# Altium footprint library COMM_SCHPCB.PcbLib: 125 footprints (part 6 of 8)
Each footprint in its own frame and in the unit in brackets; x right, y up, seen from the top. Pads: shape width x height; smd on the part's side, far side on the other; paste and mask are expansions set on the pad; w line width, h text height; cw(c..) or ccw(c..) is an arc to the next point about the centre after c.
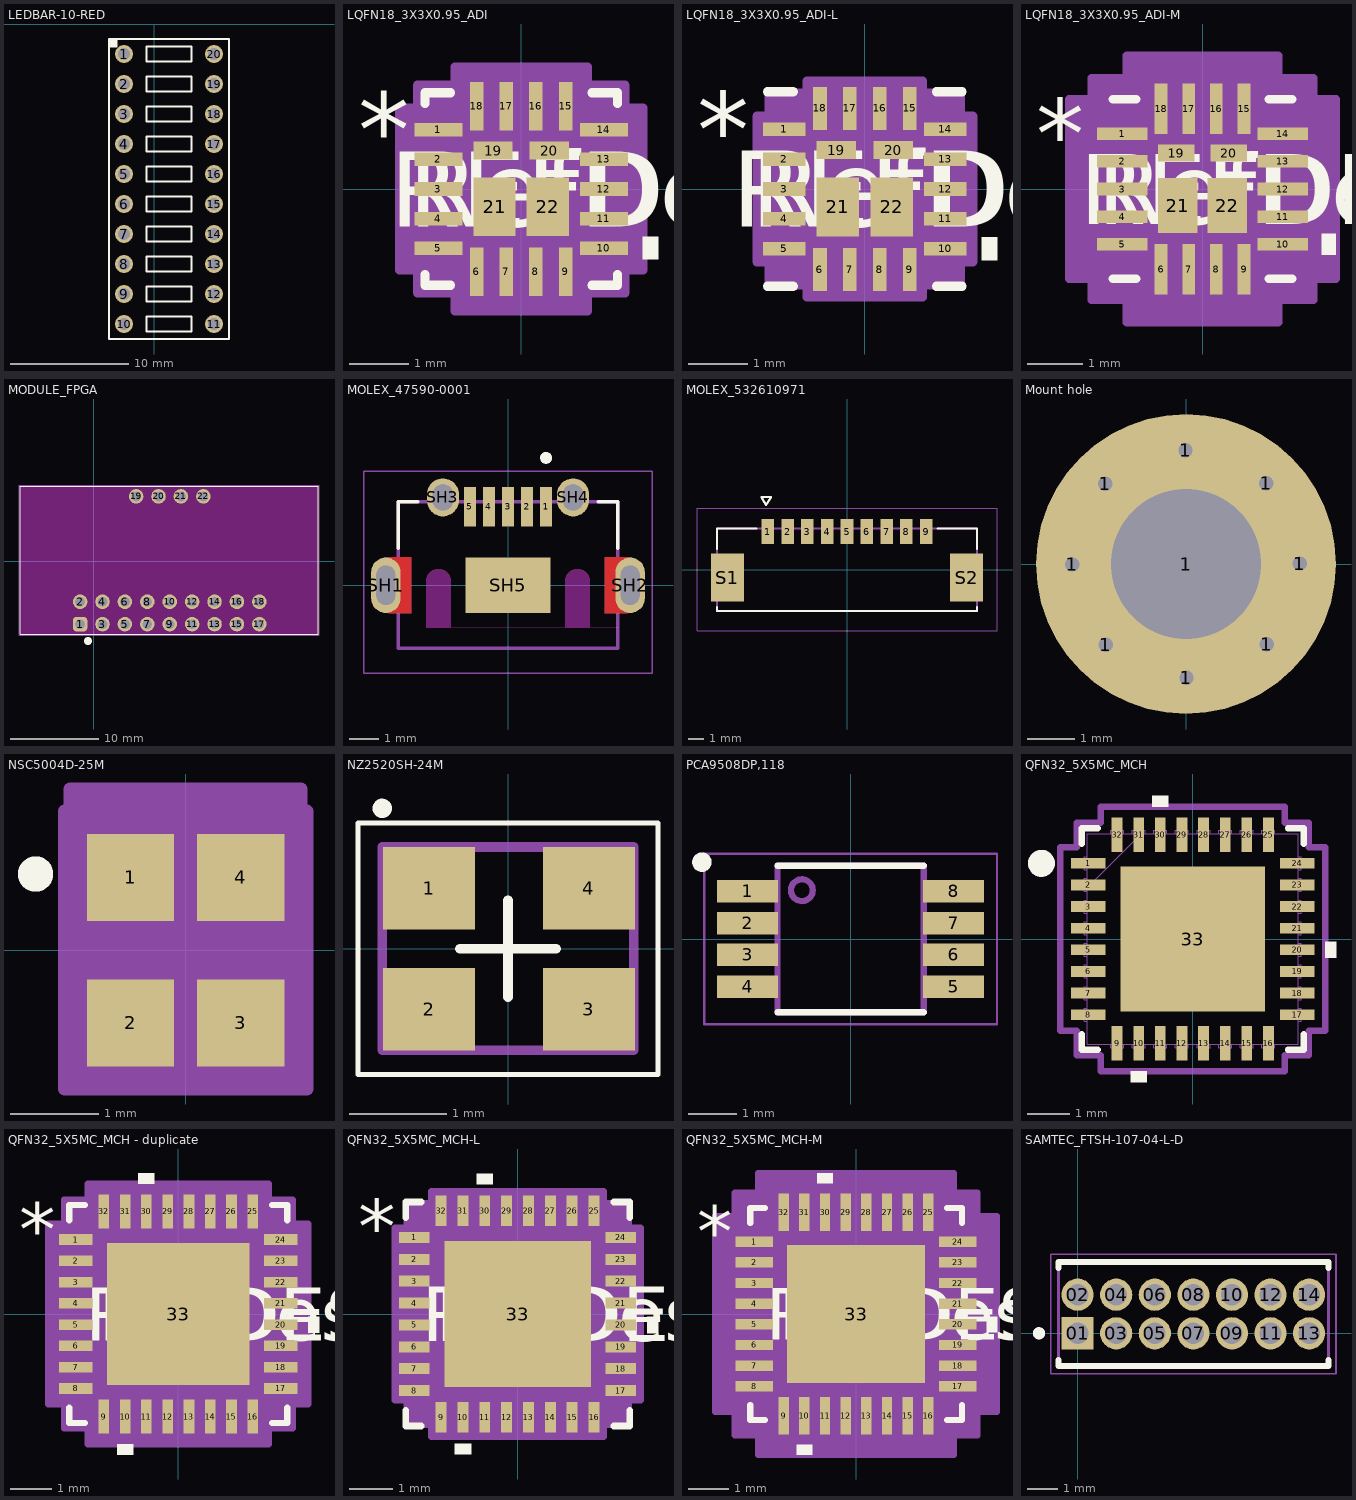
[diagram p5: the footprints below, top view; thin cyan lines are the x and y axes]

## LEDBAR-10-RED [mil]
pads (20):
  round 60 hole 40 unplated mask+2: 1(-100,-100) 2(-100,-200) 3(-100,-300) 4(-100,-400) 5(-100,-500) 6(-100,-600) 7(-100,-700) 8(-100,-800) 9(-100,-900) 10(-100,-1000) 11(200,-1000) 12(200,-900) 13(200,-800) 14(200,-700) 15(200,-600) 16(200,-500) 17(200,-400) 18(200,-300) 19(200,-200) 20(200,-100)
Top Overlay:
  rectangle: -150,-75 -125,-50
  lines w6: -150,-75 -125,-75 -125,-50 ; -150,-1050 250,-1050 250,-50 -150,-50 -150,-1050 ; -25,-1025 125,-1025 125,-975 -25,-975 -25,-1025 ; -25,-925 -25,-875 125,-875 125,-925 -25,-925 ; -25,-825 125,-825 125,-775 -25,-775 -25,-825 ; -25,-725 -25,-675 125,-675 125,-725 -25,-725 ; -25,-625 -25,-575 125,-575 125,-625 -25,-625 ; -25,-525 125,-525 125,-475 -25,-475 -25,-525 ; -25,-425 -25,-375 125,-375 125,-425 -25,-425 ; -25,-325 125,-325 125,-275 -25,-275 -25,-325 ; -25,-225 -25,-175 125,-175 125,-225 -25,-225 ; -25,-125 125,-125 125,-75 -25,-75 -25,-125
3D body "DC-10.STEP": height 325, standoff -147.44, extent -150,-1050 250,-50

## LQFN18_3X3X0.95_ADI [mil]
pads (22):
  rect 32x9 smd paste+0 mask+0: 1(-55,39.37) 2(-55,19.68) 3(-55,0) 4(-55,-19.68) 5(-55,-39.37) 10(55,-39.37) 11(55,-19.68) 12(55,0) 13(55,19.68) 14(55,39.37)
  rect 9x32 smd paste+0 mask+0: 6(-29.53,-55) 7(-9.84,-55) 8(9.84,-55) 9(29.53,-55) 15(29.53,55) 16(9.84,55) 17(-9.84,55) 18(-29.53,55)
  rect 26x12 smd paste+0 mask+0: 19(-18.7,25.6) 20(18.7,25.6)
  rect 28x39 smd paste+0 mask+0: 21(-17.72,-11.81) 22(17.72,-11.81)
Top Overlay:
  region: 81,-31.87 91,-31.87 91,-46.87 81,-46.87
  lines w6: -64,-56.97 -64,-64 -47.13,-64 ; -64,56.97 -64,64 -47.13,64 ; 47.13,-64 64,-64 64,-56.97 ; 47.13,64 64,64 64,56.97
  text "REFDES" at -87.5,-25 h50
  text "RefDes" at -75,-25 h50
  text "*" at -108.5,14.37 h50
Mechanical 13:
  lines w1: -59,9 -9,59 ; -59,-59 -59,59 59,59 59,-59 -59,-59 ; -59,-44.87 -59,-33.87 -59,-44.87 ; -59,-25.18 -59,-14.19 -59,-25.18 ; -59,-5.5 -59,5.5 -59,-5.5 ; -59,14.19 -59,25.18 -59,14.19 ; -59,33.87 -59,44.87 -59,33.87 ; -35.03,-59 -24.03,-59 -35.03,-59 ; -35.03,59 -24.03,59 -35.03,59 ; -15.34,-59 -4.34,-59 -15.34,-59 ; -15.34,59 -4.34,59 -15.34,59 ; 4.34,-59 15.34,-59 4.34,-59 ; 4.34,59 15.34,59 4.34,59 ; 24.03,-59 35.03,-59 24.03,-59 ; 24.03,59 35.03,59 24.03,59 ; 59,-44.87 59,-33.87 59,-44.87 ; 59,-25.18 59,-14.19 59,-25.18 ; 59,-5.5 59,5.5 59,-5.5 ; 59,14.19 59,25.18 59,14.19 ; 59,33.87 59,44.87 59,33.87
  text "RefDes2" at -87.5,-25 h50
  text "*" at -26.5,14.37 h50
Mechanical 15:
  region: -44.03,-69 -69,-69 -69,-53.87 -81,-53.87 -81,53.87 -69,53.87 -69,69 -44.03,69 -44.03,81 44.03,81 44.03,69 69,69 69,53.87 81,53.87 81,-53.87 69,-53.87 69,-69 44.03,-69 44.03,-81 -44.03,-81
  lines w6: -81,-53.87 -81,53.87 -69,53.87 -69,69 -44.03,69 -44.03,81 44.03,81 44.03,69 69,69 69,53.87 81,53.87 81,-53.87 69,-53.87 69,-69 44.03,-69 44.03,-81 -44.03,-81 -44.03,-69 -69,-69 -69,-53.87 -81,-53.87
3D body "LQFN18_3X3X095_ADI.step": height 41.1, standoff 0, extent -59.02,-59.02 59.02,59.02

## LQFN18_3X3X0.95_ADI-L [mil]
pads (22):
  rect 28x9 smd paste+0 mask+0: 1(-53,39.37) 2(-53,19.68) 3(-53,0) 4(-53,-19.68) 5(-53,-39.37) 10(53,-39.37) 11(53,-19.68) 12(53,0) 13(53,19.68) 14(53,39.37)
  rect 9x28 smd paste+0 mask+0: 6(-29.53,-53) 7(-9.84,-53) 8(9.84,-53) 9(29.53,-53) 15(29.53,53) 16(9.84,53) 17(-9.84,53) 18(-29.53,53)
  rect 26x12 smd paste+0 mask+0: 19(-18.7,25.6) 20(18.7,25.6)
  rect 28x39 smd paste+0 mask+0: 21(-17.72,-11.81) 22(17.72,-11.81)
Top Overlay:
  region: 77,-31.87 87,-31.87 87,-46.87 77,-46.87
  lines w6: -64,-64 -47.13,-64 ; -64,64 -47.13,64 ; 47.13,-64 64,-64 ; 47.13,64 64,64
  text "*" at -110.5,14.37 h50
  text "RefDes" at -75,-25 h50
  text "REFDES" at -87.5,-25 h50
Mechanical 13:
  lines w1: -59,9 -9,59 ; -59,-59 59,-59 59,59 -59,59 -59,-59 ; -59,-44.87 -59,-33.87 -59,-44.87 ; -59,-25.18 -59,-14.19 -59,-25.18 ; -59,-5.5 -59,5.5 -59,-5.5 ; -59,14.19 -59,25.18 -59,14.19 ; -59,33.87 -59,44.87 -59,33.87 ; -35.03,-59 -24.03,-59 -35.03,-59 ; -35.03,59 -24.03,59 -35.03,59 ; -15.34,-59 -4.34,-59 -15.34,-59 ; -15.34,59 -4.34,59 -15.34,59 ; 4.34,-59 15.34,-59 4.34,-59 ; 4.34,59 15.34,59 4.34,59 ; 24.03,-59 35.03,-59 24.03,-59 ; 24.03,59 35.03,59 24.03,59 ; 59,-44.87 59,-33.87 59,-44.87 ; 59,-25.18 59,-14.19 59,-25.18 ; 59,-5.5 59,5.5 59,-5.5 ; 59,14.19 59,25.18 59,14.19 ; 59,33.87 59,44.87 59,33.87
  text "*" at -20.5,14.37 h50
  text "RefDes2" at -87.5,-25 h50
Mechanical 15:
  region: -38.03,-63 -63,-63 -63,-47.87 -71,-47.87 -71,47.87 -63,47.87 -63,63 -38.03,63 -38.03,71 38.03,71 38.03,63 63,63 63,47.87 71,47.87 71,-47.87 63,-47.87 63,-63 38.03,-63 38.03,-71 -38.03,-71
  lines w6: -71,-47.87 -63,-47.87 -63,-63 -38.03,-63 -38.03,-71 38.03,-71 38.03,-63 63,-63 63,-47.87 71,-47.87 71,47.87 63,47.87 63,63 38.03,63 38.03,71 -38.03,71 -38.03,63 -63,63 -63,47.87 -71,47.87 -71,-47.87
3D body: height 10, standoff 0, extent 0,0 10,10

## LQFN18_3X3X0.95_ADI-M [mil]
pads (22):
  rect 36x9 smd paste+0 mask+0: 1(-57,39.37) 2(-57,19.68) 3(-57,0) 4(-57,-19.68) 5(-57,-39.37) 10(57,-39.37) 11(57,-19.68) 12(57,0) 13(57,19.68) 14(57,39.37)
  rect 9x36 smd paste+0 mask+0: 6(-29.53,-57) 7(-9.84,-57) 8(9.84,-57) 9(29.53,-57) 15(29.53,57) 16(9.84,57) 17(-9.84,57) 18(-29.53,57)
  rect 26x12 smd paste+0 mask+0: 19(-18.7,25.6) 20(18.7,25.6)
  rect 28x39 smd paste+0 mask+0: 21(-17.72,-11.81) 22(17.72,-11.81)
Top Overlay:
  region: 85,-31.87 95,-31.87 95,-46.87 85,-46.87
  lines w6: -64,-64 -47.13,-64 ; -64,64 -47.13,64 ; 47.13,-64 64,-64 ; 47.13,64 64,64
  text "*" at -118.5,14.37 h50
  text "RefDes" at -75,-25 h50
  text "REFDES" at -87.5,-25 h50
Mechanical 13:
  lines w1: -59,9 -9,59 ; -59,-59 59,-59 59,59 -59,59 -59,-59 ; -59,-44.87 -59,-33.87 -59,-44.87 ; -59,-25.18 -59,-14.19 -59,-25.18 ; -59,-5.5 -59,5.5 -59,-5.5 ; -59,14.19 -59,25.18 -59,14.19 ; -59,33.87 -59,44.87 -59,33.87 ; -35.03,-59 -24.03,-59 -35.03,-59 ; -35.03,59 -24.03,59 -35.03,59 ; -15.34,-59 -4.34,-59 -15.34,-59 ; -15.34,59 -4.34,59 -15.34,59 ; 4.34,-59 15.34,-59 4.34,-59 ; 4.34,59 15.34,59 4.34,59 ; 24.03,-59 35.03,-59 24.03,-59 ; 24.03,59 35.03,59 24.03,59 ; 59,-44.87 59,-33.87 59,-44.87 ; 59,-25.18 59,-14.19 59,-25.18 ; 59,-5.5 59,5.5 59,-5.5 ; 59,14.19 59,25.18 59,14.19 ; 59,33.87 59,44.87 59,33.87
  text "*" at -20.5,14.37 h50
  text "RefDes2" at -87.5,-25 h50
Mechanical 15:
  region: -54.03,-79 -79,-79 -79,-63.87 -95,-63.87 -95,63.87 -79,63.87 -79,79 -54.03,79 -54.03,95 54.03,95 54.03,79 79,79 79,63.87 95,63.87 95,-63.87 79,-63.87 79,-79 54.03,-79 54.03,-95 -54.03,-95
  lines w6: -95,-63.87 -79,-63.87 -79,-79 -54.03,-79 -54.03,-95 54.03,-95 54.03,-79 79,-79 79,-63.87 95,-63.87 95,63.87 79,63.87 79,79 54.03,79 54.03,95 -54.03,95 -54.03,79 -79,79 -79,63.87 -95,63.87 -95,-63.87
3D body: height 10, standoff 0, extent 0,0 10,10

## MODULE_FPGA [mm]
pads (22):
  rrect50% 1.65x1.65 hole 1.1: 1(-1.524,-7.112)
  round 1.65 hole 1.1: 2(-1.524,-4.572) 3(1.016,-7.112) 4(1.016,-4.572) 5(3.556,-7.112) 6(3.556,-4.572) 7(6.096,-7.112) 8(6.096,-4.572) 9(8.636,-7.112) 10(8.636,-4.572) 11(11.176,-7.112) 12(11.176,-4.572) 13(13.716,-7.112) 14(13.716,-4.572) 15(16.256,-7.112) 16(16.256,-4.572) 17(18.796,-7.112) 18(18.796,-4.572) 19(4.826,7.366) 20(7.366,7.366) 21(9.906,7.366) 22(12.446,7.366)
Top Overlay:
  circle w0.5: c-0.635,-9.017 r0.2
  lines w0.127: -8.331,-8.255 -8.331,8.509 25.451,8.509 25.451,-8.255 -8.331,-8.255
Keep-Out Layer:
  region: -8.331,-8.255 -8.331,8.509 25.451,8.509 25.451,-8.255
Mechanical 15:
  lines w0.05: 25.551,-8.373 -8.449,-8.373 -8.449,8.627 25.551,8.627 ; 25.559,-8.374 25.559,8.626

## MOLEX_47590-0001 [mm]
height 3.1
pads (10):
  rect 0.4x1.35 smd mask+0.07: 1(1.3,2.675) 2(0.65,2.675) 3(0,2.675) 4(-0.65,2.675) 5(-1.3,2.675)
  oval 1x1.9 hole 0.65 slot 1.35 at 90 deg mask+0: SH1(-4.175,0) SH2(4.175,0)
  oval 1.1x1.3 hole 0.7 slot 0.9 at 90 deg mask+0.1: SH3(-2.225,3) SH4(2.225,3)
  rect 2.9x1.9 smd: SH5(0,0)
Top Layer:
  region: -3.3,-0.95 -4.075,-0.95 -4.106,-0.949 -4.138,-0.947 -4.169,-0.943 -4.2,-0.937 -4.23,-0.93 -4.26,-0.921 -4.29,-0.91 -4.319,-0.898 -4.347,-0.885 -4.375,-0.87 -4.402,-0.853 -4.428,-0.835 -4.453,-0.816 -4.476,-0.796 -4.499,-0.774 -4.521,-0.751 -4.541,-0.728 -4.56,-0.703 -4.578,-0.677 -4.595,-0.65 -4.61,-0.622 -4.623,-0.594 -4.635,-0.565 -4.646,-0.535 -4.655,-0.505 -4.662,-0.475 -4.668,-0.444 -4.672,-0.413 -4.674,-0.381 -4.675,-0.35 -4.675,0.35 -4.674,0.381 -4.672,0.413 -4.668,0.444 -4.662,0.475 -4.655,0.505 -4.646,0.535 -4.635,0.565 -4.623,0.594 -4.61,0.622 -4.595,0.65 -4.578,0.677 -4.56,0.703 -4.541,0.728 -4.521,0.751 -4.499,0.774 -4.476,0.796 -4.453,0.816 -4.428,0.835 -4.402,0.853 -4.375,0.87 -4.347,0.885 -4.319,0.898 -4.29,0.91 -4.26,0.921 -4.23,0.93 -4.2,0.937 -4.169,0.943 -4.138,0.947 -4.106,0.949 -4.075,0.95 -3.3,0.95
  region: 4.106,0.949 4.138,0.947 4.169,0.943 4.2,0.937 4.23,0.93 4.26,0.921 4.29,0.91 4.319,0.898 4.347,0.885 4.375,0.87 4.402,0.853 4.428,0.835 4.453,0.816 4.476,0.796 4.499,0.774 4.521,0.751 4.541,0.728 4.56,0.703 4.578,0.677 4.595,0.65 4.61,0.622 4.623,0.594 4.635,0.565 4.646,0.535 4.655,0.505 4.662,0.475 4.668,0.444 4.672,0.413 4.674,0.381 4.675,0.35 4.675,-0.35 4.674,-0.381 4.672,-0.413 4.668,-0.444 4.662,-0.475 4.655,-0.505 4.646,-0.535 4.635,-0.565 4.623,-0.594 4.61,-0.622 4.595,-0.65 4.578,-0.677 4.56,-0.703 4.541,-0.728 4.521,-0.751 4.499,-0.774 4.476,-0.796 4.453,-0.816 4.428,-0.835 4.402,-0.853 4.375,-0.87 4.347,-0.885 4.319,-0.898 4.29,-0.91 4.26,-0.921 4.23,-0.93 4.2,-0.937 4.169,-0.943 4.138,-0.947 4.106,-0.949 4.075,-0.95 3.3,-0.95 3.3,0.95 4.075,0.95
Bottom Layer:
  region: -3.3,-0.95 -4.075,-0.95 -4.106,-0.949 -4.138,-0.947 -4.169,-0.943 -4.2,-0.937 -4.23,-0.93 -4.26,-0.921 -4.29,-0.91 -4.319,-0.898 -4.347,-0.885 -4.375,-0.87 -4.402,-0.853 -4.428,-0.835 -4.453,-0.816 -4.476,-0.796 -4.499,-0.774 -4.521,-0.751 -4.541,-0.728 -4.56,-0.703 -4.578,-0.677 -4.595,-0.65 -4.61,-0.622 -4.623,-0.594 -4.635,-0.565 -4.646,-0.535 -4.655,-0.505 -4.662,-0.475 -4.668,-0.444 -4.672,-0.413 -4.674,-0.381 -4.675,-0.35 -4.675,0.35 -4.674,0.381 -4.672,0.413 -4.668,0.444 -4.662,0.475 -4.655,0.505 -4.646,0.535 -4.635,0.565 -4.623,0.594 -4.61,0.622 -4.595,0.65 -4.578,0.677 -4.56,0.703 -4.541,0.728 -4.521,0.751 -4.499,0.774 -4.476,0.796 -4.453,0.816 -4.428,0.835 -4.402,0.853 -4.375,0.87 -4.347,0.885 -4.319,0.898 -4.29,0.91 -4.26,0.921 -4.23,0.93 -4.2,0.937 -4.169,0.943 -4.138,0.947 -4.106,0.949 -4.075,0.95 -3.3,0.95
  region: 4.106,0.949 4.138,0.947 4.169,0.943 4.2,0.937 4.23,0.93 4.26,0.921 4.29,0.91 4.319,0.898 4.347,0.885 4.375,0.87 4.402,0.853 4.428,0.835 4.453,0.816 4.476,0.796 4.499,0.774 4.521,0.751 4.541,0.728 4.56,0.703 4.578,0.677 4.595,0.65 4.61,0.622 4.623,0.594 4.635,0.565 4.646,0.535 4.655,0.505 4.662,0.475 4.668,0.444 4.672,0.413 4.674,0.381 4.675,0.35 4.675,-0.35 4.674,-0.381 4.672,-0.413 4.668,-0.444 4.662,-0.475 4.655,-0.505 4.646,-0.535 4.635,-0.565 4.623,-0.594 4.61,-0.622 4.595,-0.65 4.578,-0.677 4.56,-0.703 4.541,-0.728 4.521,-0.751 4.499,-0.774 4.476,-0.796 4.453,-0.816 4.428,-0.835 4.402,-0.853 4.375,-0.87 4.347,-0.885 4.319,-0.898 4.29,-0.91 4.26,-0.921 4.23,-0.93 4.2,-0.937 4.169,-0.943 4.138,-0.947 4.106,-0.949 4.075,-0.95 3.3,-0.95 3.3,0.95 4.075,0.95
Top Overlay:
  circle w0.2: c1.3,4.35 r0.1
  lines w0.127: -3.75,1.27 -3.75,2.85 -3.095,2.85 ; 3.095,2.85 3.75,2.85 3.75,1.27
Top Solder:
  region: -3.2,-1.05 -4.075,-1.05 -4.112,-1.049 -4.148,-1.046 -4.185,-1.041 -4.221,-1.035 -4.256,-1.026 -4.291,-1.016 -4.326,-1.004 -4.36,-0.989 -4.393,-0.974 -4.425,-0.956 -4.456,-0.937 -4.486,-0.916 -4.516,-0.894 -4.543,-0.87 -4.57,-0.845 -4.595,-0.818 -4.619,-0.791 -4.641,-0.761 -4.662,-0.731 -4.681,-0.7 -4.699,-0.668 -4.714,-0.635 -4.729,-0.601 -4.741,-0.566 -4.751,-0.531 -4.76,-0.496 -4.766,-0.46 -4.771,-0.423 -4.774,-0.387 -4.775,-0.35 -4.775,0.35 -4.774,0.387 -4.771,0.423 -4.766,0.46 -4.76,0.496 -4.751,0.531 -4.741,0.566 -4.729,0.601 -4.714,0.635 -4.699,0.668 -4.681,0.7 -4.662,0.731 -4.641,0.761 -4.619,0.791 -4.595,0.818 -4.57,0.845 -4.543,0.87 -4.516,0.894 -4.486,0.916 -4.456,0.937 -4.425,0.956 -4.393,0.974 -4.36,0.989 -4.326,1.004 -4.291,1.016 -4.256,1.026 -4.221,1.035 -4.185,1.041 -4.148,1.046 -4.112,1.049 -4.075,1.05 -3.2,1.05
  region: 4.112,1.049 4.148,1.046 4.185,1.041 4.221,1.035 4.256,1.026 4.291,1.016 4.326,1.004 4.36,0.989 4.393,0.974 4.425,0.956 4.456,0.937 4.486,0.916 4.516,0.894 4.543,0.87 4.57,0.845 4.595,0.818 4.619,0.791 4.641,0.761 4.662,0.731 4.681,0.7 4.699,0.668 4.714,0.635 4.729,0.601 4.741,0.566 4.751,0.531 4.76,0.496 4.766,0.46 4.771,0.423 4.774,0.387 4.775,0.35 4.775,-0.35 4.774,-0.387 4.771,-0.423 4.766,-0.46 4.76,-0.496 4.751,-0.531 4.741,-0.566 4.729,-0.601 4.714,-0.635 4.699,-0.668 4.681,-0.7 4.662,-0.731 4.641,-0.761 4.619,-0.791 4.595,-0.818 4.57,-0.845 4.543,-0.87 4.516,-0.894 4.486,-0.916 4.456,-0.937 4.425,-0.956 4.393,-0.974 4.36,-0.989 4.326,-1.004 4.291,-1.016 4.256,-1.026 4.221,-1.035 4.185,-1.041 4.148,-1.046 4.112,-1.049 4.075,-1.05 3.2,-1.05 3.2,1.05 4.075,1.05
Bottom Solder:
  region: -3.2,-1.05 -4.075,-1.05 -4.112,-1.049 -4.148,-1.046 -4.185,-1.041 -4.221,-1.035 -4.256,-1.026 -4.291,-1.016 -4.326,-1.004 -4.36,-0.989 -4.393,-0.974 -4.425,-0.956 -4.456,-0.937 -4.486,-0.916 -4.516,-0.894 -4.543,-0.87 -4.57,-0.845 -4.595,-0.818 -4.619,-0.791 -4.641,-0.761 -4.662,-0.731 -4.681,-0.7 -4.699,-0.668 -4.714,-0.635 -4.729,-0.601 -4.741,-0.566 -4.751,-0.531 -4.76,-0.496 -4.766,-0.46 -4.771,-0.423 -4.774,-0.387 -4.775,-0.35 -4.775,0.35 -4.774,0.387 -4.771,0.423 -4.766,0.46 -4.76,0.496 -4.751,0.531 -4.741,0.566 -4.729,0.601 -4.714,0.635 -4.699,0.668 -4.681,0.7 -4.662,0.731 -4.641,0.761 -4.619,0.791 -4.595,0.818 -4.57,0.845 -4.543,0.87 -4.516,0.894 -4.486,0.916 -4.456,0.937 -4.425,0.956 -4.393,0.974 -4.36,0.989 -4.326,1.004 -4.291,1.016 -4.256,1.026 -4.221,1.035 -4.185,1.041 -4.148,1.046 -4.112,1.049 -4.075,1.05 -3.2,1.05
  region: 4.112,1.049 4.148,1.046 4.185,1.041 4.221,1.035 4.256,1.026 4.291,1.016 4.326,1.004 4.36,0.989 4.393,0.974 4.425,0.956 4.456,0.937 4.486,0.916 4.516,0.894 4.543,0.87 4.57,0.845 4.595,0.818 4.619,0.791 4.641,0.761 4.662,0.731 4.681,0.7 4.699,0.668 4.714,0.635 4.729,0.601 4.741,0.566 4.751,0.531 4.76,0.496 4.766,0.46 4.771,0.423 4.774,0.387 4.775,0.35 4.775,-0.35 4.774,-0.387 4.771,-0.423 4.766,-0.46 4.76,-0.496 4.751,-0.531 4.741,-0.566 4.729,-0.601 4.714,-0.635 4.699,-0.668 4.681,-0.7 4.662,-0.731 4.641,-0.761 4.619,-0.791 4.595,-0.818 4.57,-0.845 4.543,-0.87 4.516,-0.894 4.486,-0.916 4.456,-0.937 4.425,-0.956 4.393,-0.974 4.36,-0.989 4.326,-1.004 4.291,-1.016 4.256,-1.026 4.221,-1.035 4.185,-1.041 4.148,-1.046 4.112,-1.049 4.075,-1.05 3.2,-1.05 3.2,1.05 4.075,1.05
Keep-Out Layer:
  board cut-out: 3.75,-1.45 -3.75,-1.45 -2.8,-1.45 -2.8,0.125 -2.799,0.147 -2.798,0.169 -2.795,0.191 -2.791,0.213 -2.786,0.235 -2.779,0.256 -2.772,0.277 -2.763,0.298 -2.754,0.318 -2.743,0.338 -2.731,0.356 -2.719,0.375 -2.705,0.392 -2.691,0.409 -2.676,0.426 -2.659,0.441 -2.642,0.455 -2.625,0.469 -2.606,0.481 -2.587,0.493 -2.568,0.504 -2.548,0.513 -2.527,0.522 -2.506,0.529 -2.485,0.536 -2.463,0.541 -2.441,0.545 -2.419,0.548 -2.397,0.549 -2.375,0.55 -2.353,0.549 -2.331,0.548 -2.309,0.545 -2.287,0.541 -2.265,0.536 -2.244,0.529 -2.223,0.522 -2.202,0.513 -2.182,0.504 -2.163,0.493 -2.144,0.481 -2.125,0.469 -2.108,0.455 -2.091,0.441 -2.074,0.426 -2.059,0.409 -2.045,0.392 -2.031,0.375 -2.019,0.356 -2.007,0.337 -1.996,0.318 -1.987,0.298 -1.978,0.277 -1.971,0.256 -1.964,0.235 -1.959,0.213 -1.955,0.191 -1.952,0.169 -1.951,0.147 -1.95,0.125 -1.95,-1.45 1.95,-1.45 1.95,0.125 1.951,0.147 1.952,0.169 1.955,0.191 1.959,0.213 1.964,0.235 1.971,0.256 1.978,0.277 1.987,0.298 1.996,0.318 2.007,0.337 2.019,0.356 2.031,0.375 2.045,0.392 2.059,0.409 2.074,0.426 2.091,0.441 2.108,0.455 2.125,0.469 2.144,0.481 2.163,0.493 2.182,0.504 2.202,0.513 2.223,0.522 2.244,0.529 2.265,0.536 2.287,0.541 2.309,0.545 2.331,0.548 2.353,0.549 2.375,0.55 2.397,0.549 2.419,0.548 2.441,0.545 2.463,0.541 2.485,0.536 2.506,0.529 2.527,0.522 2.548,0.513 2.568,0.504 2.587,0.493 2.606,0.481 2.625,0.469 2.642,0.455 2.659,0.441 2.676,0.426 2.691,0.409 2.705,0.392 2.719,0.375 2.731,0.356 2.743,0.338 2.754,0.318 2.763,0.298 2.772,0.277 2.779,0.256 2.786,0.235 2.791,0.213 2.795,0.191 2.798,0.169 2.799,0.147 2.8,0.125 2.8,-1.45
Mechanical 13:
  circle w0.2: c1.3,4.35 r0.1
  lines w0.127: -3.75,-2.15 -3.75,-1.45 -3.75,2.85 3.75,2.85 3.75,-2.15 -3.75,-2.15
Mechanical 15:
  lines w0.05: -4.925,-3 -4.925,3.9 4.925,3.9 4.925,-3 -4.925,-3
3D body "47590-0001--3DModel-STEP-269445.STEP": height 2.73, standoff -0.63, extent -4.325,-2.75 4.325,3.15

## MOLEX_532610971 [mm]
height 3.4
pads (11):
  rect 0.8x1.6 smd mask+0.076: 1(-5,2.4) 2(-3.75,2.4) 3(-2.5,2.4) 4(-1.25,2.4) 5(0,2.4) 6(1.25,2.4) 7(2.5,2.4) 8(3.75,2.4) 9(5,2.4)
  rect 2.1x3 smd mask+0.076: S1(-7.55,-0.5) S2(7.55,-0.5)
Top Overlay:
  lines w0.127: -8.2,-2.35 -8.2,-2.6 8.2,-2.6 8.2,-2.35 ; -8.2,1.3 -8.2,2.6 -5.72,2.6 ; 5.72,2.6 8.2,2.6 8.2,1.3 ; -5.405,4.575 -4.805,4.575 -5.105,4.075 -5.405,4.575
Mechanical 13:
  lines w0.127: -8.2,-2.6 8.2,-2.6 8.2,2.6 -8.2,2.6 -8.2,-2.6 ; -5.405,4.575 -4.805,4.575 -5.105,4.075 -5.405,4.575
Mechanical 15:
  lines w0.05: -9.47,-3.87 9.47,-3.87 9.47,3.87 -9.47,3.87 -9.47,-3.87
3D body "532610971.stp": height 3.2, standoff -0.2, extent -8.2,-2.5 8.2,2.7

## Mount hole [mm]
pads (9):
  round 0.6 hole 0.3: 1(-2.408,-0.007) 1(-1.708,1.697) 1(-1.697,-1.708) 1(-0.007,2.408) 1(0.007,-2.408) 1(1.697,1.708) 1(1.708,-1.697) 1(2.408,0.007)
  round 6.35 hole 3.18 paste-2539.97: 1(0,0)

## NSC5004D-25M [mm] "25 MHz XO (Standard) CMOS Oscillator 3.3V Standby (Power Down) 4-SMD, No Lead"
pads (4):
  rect 0.991x0.991 smd paste+0 mask+0: 1(-0.625,0.825) 2(-0.625,-0.825) 3(0.625,-0.825) 4(0.625,0.825)
Top Overlay:
  circle w0.3: c-1.702,0.864 r0.05
Mechanical 15:
  region: -1.308,-1.574 -1.374,-1.574 -1.374,1.574 -1.308,1.574 -1.308,1.828 1.308,1.828 1.308,1.574 1.374,1.574 1.374,-1.574 1.308,-1.574
  lines w0.152: -1.374,-1.574 -1.308,-1.574 1.308,-1.574 1.374,-1.574 1.374,1.574 1.308,1.574 1.308,1.828 -1.308,1.828 -1.308,1.574 -1.374,1.574 -1.374,-1.574
3D body "NSC5004_NDK.step": height 0.89, standoff 0, extent -1.054,-1.295 1.054,1.295

## NZ2520SH-24M [mm]
height 0.9
pads (4):
  rect 0.95x0.85 smd: 1(-0.815,0.625) 2(-0.815,-0.625) 3(0.835,-0.625) 4(0.835,0.625)
Top Overlay:
  circle w0.1: c-1.3,1.45 r0.05
  lines w0.05: -1.55,-1.3 1.55,-1.3 1.55,1.3 -1.55,1.3 -1.55,-1.3
  lines w0.1: -0.5,0 0.5,0 ; 0,-0.5 0,0.5
Top Assembly:
  lines w0.1: -1.3,-1.05 1.3,-1.05 1.3,1.05 -1.3,1.05 -1.3,-1.05
3D body: height 0.9, standoff 0, extent -1.3,-1.05 1.3,1.05

## PCA9508DP,118 [mm]
pads (8):
  rect 1.25x0.46 smd: 1(-2.11,0.975) 2(-2.11,0.325) 3(-2.11,-0.325) 4(-2.11,-0.975) 5(2.11,-0.975) 6(2.11,-0.325) 7(2.11,0.325) 8(2.11,0.975)
Top Overlay:
  circle w0.2: c-3.05,1.575 r0.1
  lines w0.127: -1.5,-1.5 1.5,-1.5 ; -1.5,1.5 1.5,1.5
Mechanical 13:
  circle w0.127: c-1,1 r0.224
  lines w0.127: -1.5,-1.5 -1.5,1.5 1.5,1.5 1.5,-1.5 -1.5,-1.5
Mechanical 15:
  lines w0.05: -3,-1.75 -3,1.75 3,1.75 3,-1.75 -3,-1.75
3D body "step_temp.STEP": height 1.1, standoff 0, extent -2.45,-1.5 2.45,1.5

## QFN32_5X5MC_MCH [mil]
pads (33):
  rect 32x10 smd paste+0 mask+0: 1(-96.5,70) 2(-96.5,50) 3(-96.5,30) 4(-96.5,10) 5(-96.5,-10) 6(-96.5,-30) 7(-96.5,-50) 8(-96.5,-70) 17(96.5,-70) 18(96.5,-50) 19(96.5,-30) 20(96.5,-10) 21(96.5,10) 22(96.5,30) 23(96.5,50) 24(96.5,70)
  rect 10x32 smd paste+0 mask+0: 9(-70,-96.5) 10(-50,-96.5) 11(-30,-96.5) 12(-10,-96.5) 13(10,-96.5) 14(30,-96.5) 15(50,-96.5) 16(70,-96.5) 25(70,96.5) 26(50,96.5) 27(30,96.5) 28(10,96.5) 29(-10,96.5) 30(-30,96.5) 31(-50,96.5) 32(-70,96.5)
  rect 134x134 smd paste-66.5 mask-66.5: 33(0,0)
Top Overlay:
  circle w15: c-140,70 r5
  region: -42.5,-122.5 -57.5,-122.5 -57.5,-132.5 -42.5,-132.5
  region: 122.5,-2.5 132.5,-2.5 132.5,-17.5 122.5,-17.5
  region: -22.5,122.5 -37.5,122.5 -37.5,132.5 -22.5,132.5
  lines w6: -102.5,-88.1 -102.5,-102.5 -88.1,-102.5 ; -102.5,88.1 -102.5,102.5 -88.1,102.5 ; 88.1,-102.5 102.5,-102.5 102.5,-88.1 ; 88.1,102.5 102.5,102.5 102.5,88.1
Top Paste:
  drawing of 25 lines, arcs and shapes, not listed
Top Solder:
  region: -69.5,54.37 -69.5,69.5 69.5,69.5 69.5,54.37
  region: -69.5,23.37 -69.5,38.63 69.5,38.63 69.5,23.37
  region: -69.5,-7.63 -69.5,7.63 69.5,7.63 69.5,-7.63
  region: -69.5,-38.63 -69.5,-23.37 69.5,-23.37 69.5,-38.63
  region: -69.5,-69.5 -69.5,-54.37 69.5,-54.37 69.5,-69.5
  region: -69.5,-69.5 -69.5,69.5 -54.37,69.5 -54.37,-69.5
  region: -23.37,-69.5 -23.37,69.5 -38.63,69.5 -38.63,-69.5
  region: 7.63,-69.5 7.63,69.5 -7.63,69.5 -7.63,-69.5
  region: 38.63,-69.5 38.63,69.5 23.37,69.5 23.37,-69.5
  region: 54.37,-69.5 54.37,69.5 69.5,69.5 69.5,-69.5
Mechanical 13:
  lines w1: -97.5,47.5 -47.5,97.5 ; -100.5,-76 -100.5,-64 -97.5,-64 -97.5,-76 -100.5,-76 ; -100.5,-56 -100.5,-44 -97.5,-44 -97.5,-56 -100.5,-56 ; -100.5,-36 -100.5,-24 -97.5,-24 -97.5,-36 -100.5,-36 ; -100.5,-16 -100.5,-4 -97.5,-4 -97.5,-16 -100.5,-16 ; -100.5,4 -100.5,16 -97.5,16 -97.5,4 -100.5,4 ; -100.5,24 -100.5,36 -97.5,36 -97.5,24 -100.5,24 ; -100.5,44 -100.5,56 -97.5,56 -97.5,44 -100.5,44 ; -100.5,64 -100.5,76 -97.5,76 -97.5,64 -100.5,64 ; -97.5,-97.5 97.5,-97.5 97.5,97.5 -97.5,97.5 -97.5,-97.5 ; -76,-100.5 -76,-97.5 -64,-97.5 -64,-100.5 -76,-100.5 ; -76,97.5 -64,97.5 -64,100.5 -76,100.5 -76,97.5 ; -56,-100.5 -56,-97.5 -44,-97.5 -44,-100.5 -56,-100.5 ; -56,97.5 -44,97.5 -44,100.5 -56,100.5 -56,97.5 ; -36,-100.5 -36,-97.5 -24,-97.5 -24,-100.5 -36,-100.5 ; -36,97.5 -24,97.5 -24,100.5 -36,100.5 -36,97.5 ; -16,-100.5 -16,-97.5 -4,-97.5 -4,-100.5 -16,-100.5 ; -16,97.5 -4,97.5 -4,100.5 -16,100.5 -16,97.5 ; 4,-100.5 4,-97.5 16,-97.5 16,-100.5 4,-100.5 ; 4,97.5 16,97.5 16,100.5 4,100.5 4,97.5 ; 24,-100.5 24,-97.5 36,-97.5 36,-100.5 24,-100.5 ; 24,97.5 36,97.5 36,100.5 24,100.5 24,97.5 ; 44,-100.5 44,-97.5 56,-97.5 56,-100.5 44,-100.5 ; 44,97.5 56,97.5 56,100.5 44,100.5 44,97.5 ; 64,-100.5 64,-97.5 76,-97.5 76,-100.5 64,-100.5 ; 64,97.5 76,97.5 76,100.5 64,100.5 64,97.5 ; 97.5,-76 97.5,-64 100.5,-64 100.5,-76 97.5,-76 ; 97.5,-56 97.5,-44 100.5,-44 100.5,-56 97.5,-56 ; 97.5,-36 97.5,-24 100.5,-24 100.5,-36 97.5,-36 ; 97.5,-16 97.5,-4 100.5,-4 100.5,-16 97.5,-16 ; 97.5,4 97.5,16 100.5,16 100.5,4 97.5,4 ; 97.5,24 97.5,36 100.5,36 100.5,24 97.5,24 ; 97.5,44 97.5,56 100.5,56 100.5,44 97.5,44 ; 97.5,64 97.5,76 100.5,76 100.5,64 97.5,64
Mechanical 15:
  lines w6: -122.5,-85 -107.5,-85 -107.5,-107.5 -85,-107.5 -85,-122.5 85,-122.5 85,-107.5 107.5,-107.5 107.5,-85 122.5,-85 122.5,85 107.5,85 107.5,107.5 85,107.5 85,122.5 -85,122.5 -85,107.5 -107.5,107.5 -107.5,85 -122.5,85 -122.5,-85
3D body "QFN32_5X5MC_MCH.step": height 65.12, standoff 0, extent -100.51,-100.51 100.51,100.51

## QFN32_5X5MC_MCH - duplicate [mil]
pads (33):
  rect 31.81x10.03 smd paste+0 mask+0: 1(-96.41,70) 2(-96.41,50) 3(-96.41,30) 4(-96.41,10) 5(-96.41,-10) 6(-96.41,-30) 7(-96.41,-50) 8(-96.41,-70) 17(96.41,-70) 18(96.41,-50) 19(96.41,-30) 20(96.41,-10) 21(96.41,10) 22(96.41,30) 23(96.41,50) 24(96.41,70)
  rect 10.03x31.81 smd paste+0 mask+0: 9(-70,-96.41) 10(-50,-96.41) 11(-30,-96.41) 12(-10,-96.41) 13(10,-96.41) 14(30,-96.41) 15(50,-96.41) 16(70,-96.41) 25(70,96.41) 26(50,96.41) 27(30,96.41) 28(10,96.41) 29(-10,96.41) 30(-30,96.41) 31(-50,96.41) 32(-70,96.41)
  rect 134x134 smd paste-66.5 mask-66.5: 33(0,0)
Top Overlay:
  region: -42.5,-122.31 -57.5,-122.31 -57.5,-132.31 -42.5,-132.31
  region: 122.31,-2.5 132.31,-2.5 132.31,-17.5 122.31,-17.5
  region: -22.5,122.31 -37.5,122.31 -37.5,132.31 -22.5,132.31
  lines w6: -102.5,-88.12 -102.5,-102.5 -88.12,-102.5 ; -102.5,88.12 -102.5,102.5 -88.12,102.5 ; 88.12,-102.5 102.5,-102.5 102.5,-88.12 ; 88.12,102.5 102.5,102.5 102.5,88.12
  text "*" at -149.81,55 h50
  text "RefDes" at -75,-25 h50
  text "REFDES" at -87.5,-25 h50
Top Paste:
  drawing of 25 lines, arcs and shapes, not listed
Top Solder:
  region: -69.5,54.37 -69.5,69.5 69.5,69.5 69.5,54.37
  region: -69.5,23.37 -69.5,38.63 69.5,38.63 69.5,23.37
  region: -69.5,-7.63 -69.5,7.63 69.5,7.63 69.5,-7.63
  region: -69.5,-38.63 -69.5,-23.37 69.5,-23.37 69.5,-38.63
  region: -69.5,-69.5 -69.5,-54.37 69.5,-54.37 69.5,-69.5
  region: -69.5,-69.5 -69.5,69.5 -54.37,69.5 -54.37,-69.5
  region: -23.37,-69.5 -23.37,69.5 -38.63,69.5 -38.63,-69.5
  region: 7.63,-69.5 7.63,69.5 -7.63,69.5 -7.63,-69.5
  region: 38.63,-69.5 38.63,69.5 23.37,69.5 23.37,-69.5
  region: 54.37,-69.5 54.37,69.5 69.5,69.5 69.5,-69.5
Mechanical 13:
  lines w1: -97.5,47.5 -47.5,97.5 ; -100.5,-76 -100.5,-64 -97.5,-64 -97.5,-76 -100.5,-76 ; -100.5,-56 -100.5,-44 -97.5,-44 -97.5,-56 -100.5,-56 ; -100.5,-36 -100.5,-24 -97.5,-24 -97.5,-36 -100.5,-36 ; -100.5,-16 -100.5,-4 -97.5,-4 -97.5,-16 -100.5,-16 ; -100.5,4 -100.5,16 -97.5,16 -97.5,4 -100.5,4 ; -100.5,24 -100.5,36 -97.5,36 -97.5,24 -100.5,24 ; -100.5,44 -100.5,56 -97.5,56 -97.5,44 -100.5,44 ; -100.5,64 -100.5,76 -97.5,76 -97.5,64 -100.5,64 ; -97.5,-97.5 97.5,-97.5 97.5,97.5 -97.5,97.5 -97.5,-97.5 ; -76,-100.5 -76,-97.5 -64,-97.5 -64,-100.5 -76,-100.5 ; -76,97.5 -64,97.5 -64,100.5 -76,100.5 -76,97.5 ; -56,-100.5 -56,-97.5 -44,-97.5 -44,-100.5 -56,-100.5 ; -56,97.5 -44,97.5 -44,100.5 -56,100.5 -56,97.5 ; -36,-100.5 -36,-97.5 -24,-97.5 -24,-100.5 -36,-100.5 ; -36,97.5 -24,97.5 -24,100.5 -36,100.5 -36,97.5 ; -16,-100.5 -16,-97.5 -4,-97.5 -4,-100.5 -16,-100.5 ; -16,97.5 -4,97.5 -4,100.5 -16,100.5 -16,97.5 ; 4,-100.5 4,-97.5 16,-97.5 16,-100.5 4,-100.5 ; 4,97.5 16,97.5 16,100.5 4,100.5 4,97.5 ; 24,-100.5 24,-97.5 36,-97.5 36,-100.5 24,-100.5 ; 24,97.5 36,97.5 36,100.5 24,100.5 24,97.5 ; 44,-100.5 44,-97.5 56,-97.5 56,-100.5 44,-100.5 ; 44,97.5 56,97.5 56,100.5 44,100.5 44,97.5 ; 64,-100.5 64,-97.5 76,-97.5 76,-100.5 64,-100.5 ; 64,97.5 76,97.5 76,100.5 64,100.5 64,97.5 ; 97.5,-76 97.5,-64 100.5,-64 100.5,-76 97.5,-76 ; 97.5,-56 97.5,-44 100.5,-44 100.5,-56 97.5,-56 ; 97.5,-36 97.5,-24 100.5,-24 100.5,-36 97.5,-36 ; 97.5,-16 97.5,-4 100.5,-4 100.5,-16 97.5,-16 ; 97.5,4 97.5,16 100.5,16 100.5,4 97.5,4 ; 97.5,24 97.5,36 100.5,36 100.5,24 97.5,24 ; 97.5,44 97.5,56 100.5,56 100.5,44 97.5,44 ; 97.5,64 97.5,76 100.5,76 100.5,64 97.5,64
  text "*" at -93,55 h50
  text "RefDes2" at -87.5,-25 h50
Mechanical 15:
  region: -85.02,-107.5 -107.5,-107.5 -107.5,-85.02 -122.31,-85.02 -122.31,85.02 -107.5,85.02 -107.5,107.5 -85.02,107.5 -85.02,122.31 85.02,122.31 85.02,107.5 107.5,107.5 107.5,85.02 122.31,85.02 122.31,-85.02 107.5,-85.02 107.5,-107.5 85.02,-107.5 85.02,-122.31 -85.02,-122.31
  lines w6: -122.31,-85.02 -107.5,-85.02 -107.5,-107.5 -85.02,-107.5 -85.02,-122.31 85.02,-122.31 85.02,-107.5 107.5,-107.5 107.5,-85.02 122.31,-85.02 122.31,85.02 107.5,85.02 107.5,107.5 85.02,107.5 85.02,122.31 -85.02,122.31 -85.02,107.5 -107.5,107.5 -107.5,85.02 -122.31,85.02 -122.31,-85.02
3D body "QFN32_5X5MC_MCH.step": height 65.12, standoff 0, extent -100.51,-100.51 100.51,100.51

## QFN32_5X5MC_MCH-L [mil]
pads (33):
  rect 28x10 smd paste+0 mask+0: 1(-94.5,70) 2(-94.5,50) 3(-94.5,30) 4(-94.5,10) 5(-94.5,-10) 6(-94.5,-30) 7(-94.5,-50) 8(-94.5,-70) 17(94.5,-70) 18(94.5,-50) 19(94.5,-30) 20(94.5,-10) 21(94.5,10) 22(94.5,30) 23(94.5,50) 24(94.5,70)
  rect 10x28 smd paste+0 mask+0: 9(-70,-94.5) 10(-50,-94.5) 11(-30,-94.5) 12(-10,-94.5) 13(10,-94.5) 14(30,-94.5) 15(50,-94.5) 16(70,-94.5) 25(70,94.5) 26(50,94.5) 27(30,94.5) 28(10,94.5) 29(-10,94.5) 30(-30,94.5) 31(-50,94.5) 32(-70,94.5)
  rect 134x134 smd paste-66.5 mask-66.5: 33(0,0)
Top Overlay:
  region: -42.5,-118.5 -57.5,-118.5 -57.5,-128.5 -42.5,-128.5
  region: 118.5,-2.5 128.5,-2.5 128.5,-17.5 118.5,-17.5
  region: -22.5,118.5 -37.5,118.5 -37.5,128.5 -22.5,128.5
  lines w6: -102.5,-88.1 -102.5,-102.5 -88.1,-102.5 ; -102.5,88.1 -102.5,102.5 -88.1,102.5 ; 88.1,-102.5 102.5,-102.5 102.5,-88.1 ; 88.1,102.5 102.5,102.5 102.5,88.1
  text "*" at -146,55 h50
  text "RefDes" at -75,-25 h50
  text "REFDES" at -87.5,-25 h50
Top Paste:
  drawing of 25 lines, arcs and shapes, not listed
Top Solder:
  region: -69.5,54.37 -69.5,69.5 69.5,69.5 69.5,54.37
  region: -69.5,23.37 -69.5,38.63 69.5,38.63 69.5,23.37
  region: -69.5,-7.63 -69.5,7.63 69.5,7.63 69.5,-7.63
  region: -69.5,-38.63 -69.5,-23.37 69.5,-23.37 69.5,-38.63
  region: -69.5,-69.5 -69.5,-54.37 69.5,-54.37 69.5,-69.5
  region: -69.5,-69.5 -69.5,69.5 -54.37,69.5 -54.37,-69.5
  region: -23.37,-69.5 -23.37,69.5 -38.63,69.5 -38.63,-69.5
  region: 7.63,-69.5 7.63,69.5 -7.63,69.5 -7.63,-69.5
  region: 38.63,-69.5 38.63,69.5 23.37,69.5 23.37,-69.5
  region: 54.37,-69.5 54.37,69.5 69.5,69.5 69.5,-69.5
Mechanical 13:
  lines w1: -97.5,47.5 -47.5,97.5 ; -100.5,-76 -100.5,-64 -97.5,-64 -97.5,-76 -100.5,-76 ; -100.5,-56 -100.5,-44 -97.5,-44 -97.5,-56 -100.5,-56 ; -100.5,-36 -100.5,-24 -97.5,-24 -97.5,-36 -100.5,-36 ; -100.5,-16 -100.5,-4 -97.5,-4 -97.5,-16 -100.5,-16 ; -100.5,4 -100.5,16 -97.5,16 -97.5,4 -100.5,4 ; -100.5,24 -100.5,36 -97.5,36 -97.5,24 -100.5,24 ; -100.5,44 -100.5,56 -97.5,56 -97.5,44 -100.5,44 ; -100.5,64 -100.5,76 -97.5,76 -97.5,64 -100.5,64 ; -97.5,-97.5 97.5,-97.5 97.5,97.5 -97.5,97.5 -97.5,-97.5 ; -76,-100.5 -76,-97.5 -64,-97.5 -64,-100.5 -76,-100.5 ; -76,97.5 -64,97.5 -64,100.5 -76,100.5 -76,97.5 ; -56,-100.5 -56,-97.5 -44,-97.5 -44,-100.5 -56,-100.5 ; -56,97.5 -44,97.5 -44,100.5 -56,100.5 -56,97.5 ; -36,-100.5 -36,-97.5 -24,-97.5 -24,-100.5 -36,-100.5 ; -36,97.5 -24,97.5 -24,100.5 -36,100.5 -36,97.5 ; -16,-100.5 -16,-97.5 -4,-97.5 -4,-100.5 -16,-100.5 ; -16,97.5 -4,97.5 -4,100.5 -16,100.5 -16,97.5 ; 4,-100.5 4,-97.5 16,-97.5 16,-100.5 4,-100.5 ; 4,97.5 16,97.5 16,100.5 4,100.5 4,97.5 ; 24,-100.5 24,-97.5 36,-97.5 36,-100.5 24,-100.5 ; 24,97.5 36,97.5 36,100.5 24,100.5 24,97.5 ; 44,-100.5 44,-97.5 56,-97.5 56,-100.5 44,-100.5 ; 44,97.5 56,97.5 56,100.5 44,100.5 44,97.5 ; 64,-100.5 64,-97.5 76,-97.5 76,-100.5 64,-100.5 ; 64,97.5 76,97.5 76,100.5 64,100.5 64,97.5 ; 97.5,-76 97.5,-64 100.5,-64 100.5,-76 97.5,-76 ; 97.5,-56 97.5,-44 100.5,-44 100.5,-56 97.5,-56 ; 97.5,-36 97.5,-24 100.5,-24 100.5,-36 97.5,-36 ; 97.5,-16 97.5,-4 100.5,-4 100.5,-16 97.5,-16 ; 97.5,4 97.5,16 100.5,16 100.5,4 97.5,4 ; 97.5,24 97.5,36 100.5,36 100.5,24 97.5,24 ; 97.5,44 97.5,56 100.5,56 100.5,44 97.5,44 ; 97.5,64 97.5,76 100.5,76 100.5,64 97.5,64
  text "*" at -93,55 h50
  text "RefDes2" at -87.5,-25 h50
Mechanical 15:
  region: -79,-101.5 -101.5,-101.5 -101.5,-79 -112.5,-79 -112.5,79 -101.5,79 -101.5,101.5 -79,101.5 -79,112.5 79,112.5 79,101.5 101.5,101.5 101.5,79 112.5,79 112.5,-79 101.5,-79 101.5,-101.5 79,-101.5 79,-112.5 -79,-112.5
  lines w6: -112.5,-79 -101.5,-79 -101.5,-101.5 -79,-101.5 -79,-112.5 79,-112.5 79,-101.5 101.5,-101.5 101.5,-79 112.5,-79 112.5,79 101.5,79 101.5,101.5 79,101.5 79,112.5 -79,112.5 -79,101.5 -101.5,101.5 -101.5,79 -112.5,79 -112.5,-79
3D body "QFN32_5X5MC_MCH.step": height 65.12, standoff 0, extent -100.51,-100.51 100.51,100.51

## QFN32_5X5MC_MCH-M [mil]
pads (33):
  rect 36x10 smd paste+0 mask+0: 1(-98.5,70) 2(-98.5,50) 3(-98.5,30) 4(-98.5,10) 5(-98.5,-10) 6(-98.5,-30) 7(-98.5,-50) 8(-98.5,-70) 17(98.5,-70) 18(98.5,-50) 19(98.5,-30) 20(98.5,-10) 21(98.5,10) 22(98.5,30) 23(98.5,50) 24(98.5,70)
  rect 10x36 smd paste+0 mask+0: 9(-70,-98.5) 10(-50,-98.5) 11(-30,-98.5) 12(-10,-98.5) 13(10,-98.5) 14(30,-98.5) 15(50,-98.5) 16(70,-98.5) 25(70,98.5) 26(50,98.5) 27(30,98.5) 28(10,98.5) 29(-10,98.5) 30(-30,98.5) 31(-50,98.5) 32(-70,98.5)
  rect 134x134 smd paste-66.5 mask-66.5: 33(0,0)
Top Overlay:
  region: -22.5,126.5 -37.5,126.5 -37.5,136.5 -22.5,136.5
  region: 126.5,-2.5 136.5,-2.5 136.5,-17.5 126.5,-17.5
  region: -42.5,-126.5 -57.5,-126.5 -57.5,-136.5 -42.5,-136.5
  lines w6: -102.5,-88.1 -102.5,-102.5 -88.1,-102.5 ; -102.5,88.1 -102.5,102.5 -88.1,102.5 ; 88.1,-102.5 102.5,-102.5 102.5,-88.1 ; 88.1,102.5 102.5,102.5 102.5,88.1
  text "REFDES" at -87.5,-25 h50
  text "RefDes" at -75,-25 h50
  text "*" at -154,55 h50
Top Paste:
  drawing of 25 lines, arcs and shapes, not listed
Top Solder:
  region: 54.37,-69.5 54.37,69.5 69.5,69.5 69.5,-69.5
  region: 38.63,-69.5 38.63,69.5 23.37,69.5 23.37,-69.5
  region: 7.63,-69.5 7.63,69.5 -7.63,69.5 -7.63,-69.5
  region: -23.37,-69.5 -23.37,69.5 -38.63,69.5 -38.63,-69.5
  region: -69.5,-69.5 -69.5,69.5 -54.37,69.5 -54.37,-69.5
  region: -69.5,-69.5 -69.5,-54.37 69.5,-54.37 69.5,-69.5
  region: -69.5,-38.63 -69.5,-23.37 69.5,-23.37 69.5,-38.63
  region: -69.5,-7.63 -69.5,7.63 69.5,7.63 69.5,-7.63
  region: -69.5,23.37 -69.5,38.63 69.5,38.63 69.5,23.37
  region: -69.5,54.37 -69.5,69.5 69.5,69.5 69.5,54.37
Mechanical 13:
  lines w1: -97.5,47.5 -47.5,97.5 ; -100.5,-76 -97.5,-76 -97.5,-64 -100.5,-64 -100.5,-76 ; -100.5,-56 -97.5,-56 -97.5,-44 -100.5,-44 -100.5,-56 ; -100.5,-36 -97.5,-36 -97.5,-24 -100.5,-24 -100.5,-36 ; -100.5,-16 -97.5,-16 -97.5,-4 -100.5,-4 -100.5,-16 ; -100.5,4 -97.5,4 -97.5,16 -100.5,16 -100.5,4 ; -100.5,24 -97.5,24 -97.5,36 -100.5,36 -100.5,24 ; -100.5,44 -97.5,44 -97.5,56 -100.5,56 -100.5,44 ; -100.5,64 -97.5,64 -97.5,76 -100.5,76 -100.5,64 ; -97.5,-97.5 -97.5,97.5 97.5,97.5 97.5,-97.5 -97.5,-97.5 ; -76,-100.5 -64,-100.5 -64,-97.5 -76,-97.5 -76,-100.5 ; -76,97.5 -76,100.5 -64,100.5 -64,97.5 -76,97.5 ; -56,-100.5 -44,-100.5 -44,-97.5 -56,-97.5 -56,-100.5 ; -56,97.5 -56,100.5 -44,100.5 -44,97.5 -56,97.5 ; -36,-100.5 -24,-100.5 -24,-97.5 -36,-97.5 -36,-100.5 ; -36,97.5 -36,100.5 -24,100.5 -24,97.5 -36,97.5 ; -16,-100.5 -4,-100.5 -4,-97.5 -16,-97.5 -16,-100.5 ; -16,97.5 -16,100.5 -4,100.5 -4,97.5 -16,97.5 ; 4,-100.5 16,-100.5 16,-97.5 4,-97.5 4,-100.5 ; 4,97.5 4,100.5 16,100.5 16,97.5 4,97.5 ; 24,-100.5 36,-100.5 36,-97.5 24,-97.5 24,-100.5 ; 24,97.5 24,100.5 36,100.5 36,97.5 24,97.5 ; 44,-100.5 56,-100.5 56,-97.5 44,-97.5 44,-100.5 ; 44,97.5 44,100.5 56,100.5 56,97.5 44,97.5 ; 64,-100.5 76,-100.5 76,-97.5 64,-97.5 64,-100.5 ; 64,97.5 64,100.5 76,100.5 76,97.5 64,97.5 ; 97.5,-76 100.5,-76 100.5,-64 97.5,-64 97.5,-76 ; 97.5,-56 100.5,-56 100.5,-44 97.5,-44 97.5,-56 ; 97.5,-36 100.5,-36 100.5,-24 97.5,-24 97.5,-36 ; 97.5,-16 100.5,-16 100.5,-4 97.5,-4 97.5,-16 ; 97.5,4 100.5,4 100.5,16 97.5,16 97.5,4 ; 97.5,24 100.5,24 100.5,36 97.5,36 97.5,24 ; 97.5,44 100.5,44 100.5,56 97.5,56 97.5,44 ; 97.5,64 100.5,64 100.5,76 97.5,76 97.5,64
  text "RefDes2" at -87.5,-25 h50
  text "*" at -93,55 h50
Mechanical 15:
  region: -95,-117.5 -117.5,-117.5 -117.5,-95 -136.5,-95 -136.5,95 -117.5,95 -117.5,117.5 -95,117.5 -95,136.5 95,136.5 95,117.5 117.5,117.5 117.5,95 136.5,95 136.5,-95 117.5,-95 117.5,-117.5 95,-117.5 95,-136.5 -95,-136.5
  lines w6: -136.5,-95 -136.5,95 -117.5,95 -117.5,117.5 -95,117.5 -95,136.5 95,136.5 95,117.5 117.5,117.5 117.5,95 136.5,95 136.5,-95 117.5,-95 117.5,-117.5 95,-117.5 95,-136.5 -95,-136.5 -95,-117.5 -117.5,-117.5 -117.5,-95 -136.5,-95
3D body "QFN32_5X5MC_MCH.step": height 65.12, standoff 0, extent -100.51,-100.51 100.51,100.51

## SAMTEC_FTSH-107-04-L-D [mm]
pads (14):
  rect 1.06x1.06 / inner round 1.06 / far side rect 1.06x1.06 hole 0.71: 01(0,0)
  round 1.06 hole 0.71: 02(0,1.27) 03(1.27,0) 04(1.27,1.27) 05(2.54,0) 06(2.54,1.27) 07(3.81,0) 08(3.81,1.27) 09(5.08,0) 10(5.08,1.27) 11(6.35,0) 12(6.35,1.27) 13(7.62,0) 14(7.62,1.27)
Top Overlay:
  circle w0.2: c-1.27,0 r0.1
  lines w0.2: -0.635,-0.88 -0.635,-1.08 8.255,-1.08 8.255,-0.88 ; -0.635,2.15 -0.635,2.35 8.255,2.35 8.255,2.15
Mechanical 13:
  circle w0.2: c-1.27,0 r0.1
  lines w0.1: -0.635,-1.08 8.255,-1.08 8.255,2.35 -0.635,2.35 -0.635,-1.08
Mechanical 15:
  lines w0.05: -0.885,-1.33 8.505,-1.33 8.505,2.6 -0.885,2.6 -0.885,-1.33
3D body "step_temp.STEP": height 6.32, standoff -2.29, extent -0.635,-1.079 8.255,2.349